# EAGLE library part TRANS-BJT_NPN-PNP-DUAL (library LITTLEBITS140915)
Dual complementary NPN-PNP transistors in a SC70-6 package. Mfg. (Diodes Inc.) part number: BC847PN-7-F Vendor (Digi-Key) part number: BC847PN-FDITR-ND
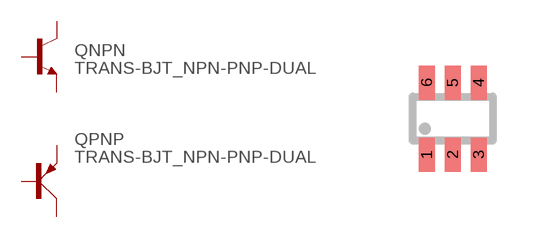
[diagram p38: symbol with the pads of SC70-6; footprint SC70-6]

Designator prefix Q; gates NPN=BJT_NPN PNP=BJT_PNP

## TRANS-BJT_NPN-PNP-DUAL  [SC70-6]
1  NPN:E  pas
2  NPN:B  pas
3  PNP:C  pas
4  PNP:E  pas
5  PNP:B  pas
6  NPN:C  pas

## Footprint SC70-6 (pad centres in mm)
smd 0.4 x 0.85: 1 -0.65,-0.9; 2 0,-0.9; 3 0.65,-0.9; 4 0.65,0.9; 5 0,0.9; 6 -0.65,0.9